# Altium footprint library 005-Doide.PcbLib: 3 footprints
Each footprint in its own frame and in the unit in brackets; x right, y up, seen from the top. Pads: shape width x height; smd on the part's side, far side on the other; paste and mask are expansions set on the pad; w line width, h text height; cw(c..) or ccw(c..) is an arc to the next point about the centre after c.
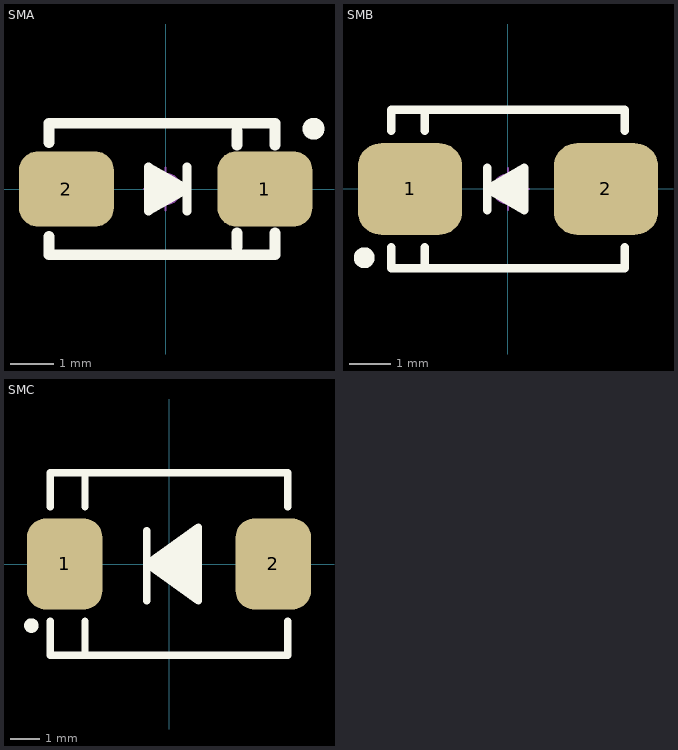
[diagram p0: the footprints below, top view; thin cyan lines are the x and y axes]

## SMA [mm] "SMA/5.2mmx2.7mmx2.2mm"
height 2.2
pads (2):
  rrect50% 2.2x1.75 smd: 1(2.3,0) 2(-2.3,0)
Top Overlay:
  circle w0.254: c3.429,1.397 r0.127
  lines w0.203: 0.494,-0.508 0.494,0.508 ; -0.395,-0.508 -0.395,0.508 0.494,0 -0.395,-0.508
  lines w0.254: -2.7,-1.105 -2.7,-1.524 2.54,-1.524 2.54,-1.016 ; -2.7,1.08 -2.7,1.524 2.54,1.524 2.54,1.016 ; -0.33,0.305 0.305,0 -0.254,-0.305 -0.254,0.051 0.023,0 ; 1.651,-1.35 1.651,-1.016 ; 1.651,1.016 1.651,1.35
Mechanical 15:
  circle w0.05: c0,0 r0.35
  lines w0.05: -0.5,0 0.5,0 ; 0,-0.5 0,0.5
3D body "SMA(DO-214AC).step": height 2.4, standoff 0, extent -2.6,-1.3 2.6,1.3

## SMB [mm] "SMA/4.7mmx2.94mmx2.44mm"
height 2.44
pads (2):
  rrect50% 2.5x2.2 smd: 1(-2.35,0) 2(2.35,0)
Top Overlay:
  circle w0.25: c-3.45,-1.65 r0.125
  lines w0.2: -2.8,-1.4 -2.8,-1.9 2.8,-1.9 2.8,-1.4 ; -2.8,1.4 -2.8,1.9 2.8,1.9 2.8,1.4 ; -2,-1.9 -2,-1.4 ; -2,1.4 -2,1.9
  lines w0.203: -0.5,-0.508 -0.5,0.508 ; -0.5,0 0.389,-0.508 0.389,0.508 -0.5,0
  lines w0.254: 0.254,0 -0.279,0 ; -0.279,0 0.229,-0.279 0.229,0.305 -0.279,0
Mechanical 15:
  circle w0.05: c0,0 r0.35
  lines w0.05: -0.5,0 0.5,0 ; 0,-0.5 0,0.5
3D body "SMB(DO-214AA).step": height 2.27, standoff -0.03, extent -2.7,-1.8 2.7,1.8

## SMC [mm] "SMC/7.11mmx6.22mmx2.62mm"
height 2.62
pads (2):
  rrect50% 2.6x3.15 smd: 1(-3.6,0) 2(3.6,0)
Top Overlay:
  circle w0.25: c-4.75,-2.125 r0.125
  lines w0.254: -4.1,-1.975 -4.1,-3.15 4.1,-3.15 4.1,-1.975 ; -4.1,1.975 -4.1,3.15 4.1,3.15 4.1,1.975 ; -2.9,-3.15 -2.9,-1.975 ; -2.9,1.975 -2.9,3.15 ; -0.762,-1.27 -0.762,1.143 ; 0.737,0.127 0.229,0.051 0.635,-0.152 0.584,0.33 0,0.051 0.762,-0.483 0.711,0.66 -0.229,0 0.914,-0.762 0.889,0.965 -0.5,0 0.889,-0.991 ; -0.762,0 1.016,-1.27 1.016,1.27 -0.762,0
Mechanical 15:
  circle w0.05: c0,0 r0.35
  lines w0.05: -0.5,0 0.5,0 ; 0,-0.5 0,0.5
3D body "SMC(DO-214AB).step": height 2.3, standoff 0, extent -3.975,-2.95 3.975,2.95